# EAGLE library part STM32L072RB (library pimoroni-ics)
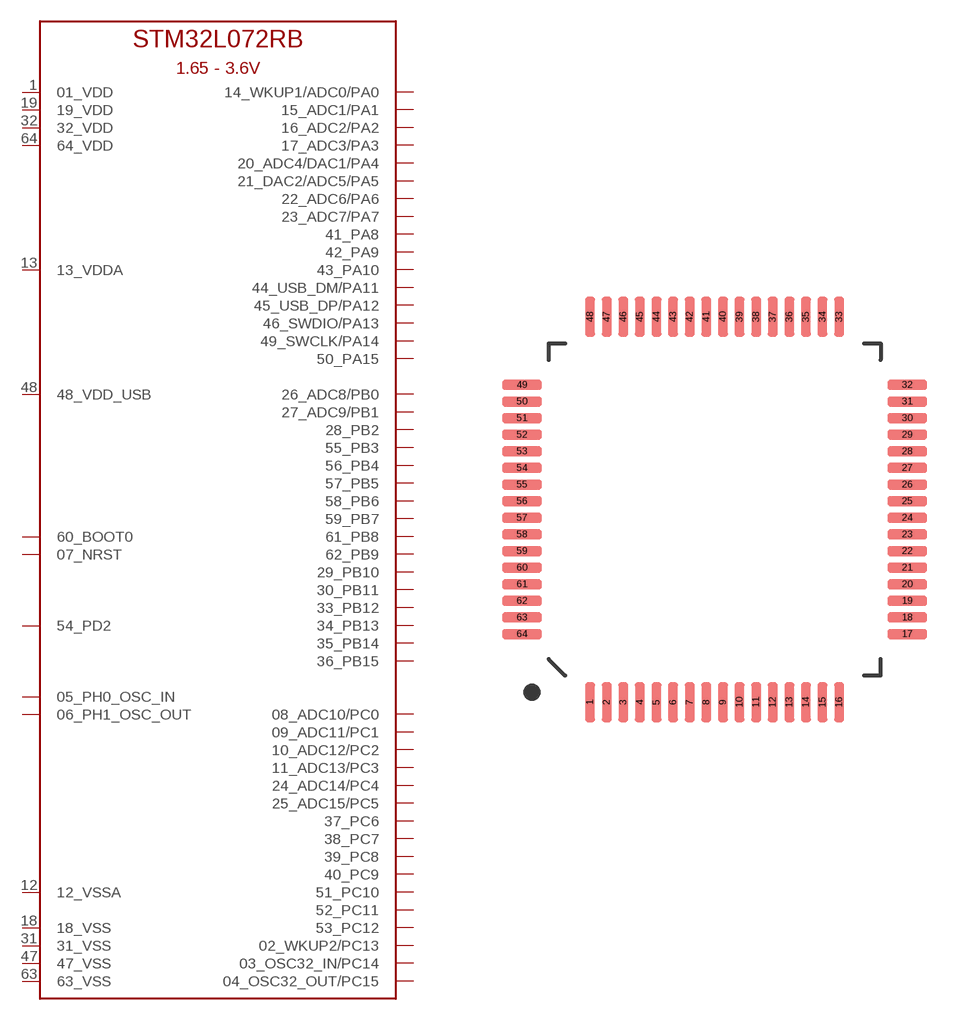
[diagram p92: symbol with the pads of QFP-64; footprint QFP-64]

Designator prefix U

## STM32L072RB_QFP64  [QFP-64]
1  01_VDD
2  02_WKUP2/PC13
3  03_OSC32_IN/PC14
4  04_OSC32_OUT/PC15
5  05_PH0_OSC_IN
6  06_PH1_OSC_OUT
7  07_NRST
8  08_ADC10/PC0
9  09_ADC11/PC1
10  10_ADC12/PC2
11  11_ADC13/PC3
12  12_VSSA
13  13_VDDA
14  14_WKUP1/ADC0/PA0
15  15_ADC1/PA1
16  16_ADC2/PA2
17  17_ADC3/PA3
18  18_VSS
19  19_VDD
20  20_ADC4/DAC1/PA4
21  21_DAC2/ADC5/PA5
22  22_ADC6/PA6
23  23_ADC7/PA7
24  24_ADC14/PC4
25  25_ADC15/PC5
26  26_ADC8/PB0
27  27_ADC9/PB1
28  28_PB2
29  29_PB10
30  30_PB11
31  31_VSS
32  32_VDD
33  33_PB12
34  34_PB13
35  35_PB14
36  36_PB15
37  37_PC6
38  38_PC7
39  39_PC8
40  40_PC9
41  41_PA8
42  42_PA9
43  43_PA10
44  44_USB_DM/PA11
45  45_USB_DP/PA12
46  46_SWDIO/PA13
47  47_VSS
48  48_VDD_USB
49  49_SWCLK/PA14
50  50_PA15
51  51_PC10
52  52_PC11
53  53_PC12
54  54_PD2
55  55_PB3
56  56_PB4
57  57_PB5
58  58_PB6
59  59_PB7
60  60_BOOT0
61  61_PB8
62  62_PB9
63  63_VSS
64  64_VDD

## Footprint QFP-64 (pad centres in mm)
smd 0.3 x 1.2: 1 -3.75,-5.8; 2 -3.25,-5.8; 3 -2.75,-5.8; 4 -2.25,-5.8; 5 -1.75,-5.8; 6 -1.25,-5.8; 7 -0.75,-5.8; 8 -0.25,-5.8; 9 0.25,-5.8; 10 0.75,-5.8; 11 1.25,-5.8; 12 1.75,-5.8; 13 2.25,-5.8; 14 2.75,-5.8; 15 3.25,-5.8; 16 3.75,-5.8; 33 3.75,5.8; 34 3.25,5.8; 35 2.75,5.8; 36 2.25,5.8; 37 1.75,5.8; 38 1.25,5.8; 39 0.75,5.8; 40 0.25,5.8; 41 -0.25,5.8; 42 -0.75,5.8; 43 -1.25,5.8; 44 -1.75,5.8; 45 -2.25,5.8; 46 -2.75,5.8; 47 -3.25,5.8; 48 -3.75,5.8
smd 1.2 x 0.3: 17 5.8,-3.75; 18 5.8,-3.25; 19 5.8,-2.75; 20 5.8,-2.25; 21 5.8,-1.75; 22 5.8,-1.25; 23 5.8,-0.75; 24 5.8,-0.25; 25 5.8,0.25; 26 5.8,0.75; 27 5.8,1.25; 28 5.8,1.75; 29 5.8,2.25; 30 5.8,2.75; 31 5.8,3.25; 32 5.8,3.75; 49 -5.8,3.75; 50 -5.8,3.25; 51 -5.8,2.75; 52 -5.8,2.25; 53 -5.8,1.75; 54 -5.8,1.25; 55 -5.8,0.75; 56 -5.8,0.25; 57 -5.8,-0.25; 58 -5.8,-0.75; 59 -5.8,-1.25; 60 -5.8,-1.75; 61 -5.8,-2.25; 62 -5.8,-2.75; 63 -5.8,-3.25; 64 -5.8,-3.75